# Altium footprint library LED_RGB_WS2812B.PcbLib: 4 footprints
Each footprint in its own frame and in the unit in brackets; x right, y up, seen from the top. Pads: shape width x height; smd on the part's side, far side on the other; paste and mask are expansions set on the pad; w line width, h text height; cw(c..) or ccw(c..) is an arc to the next point about the centre after c.
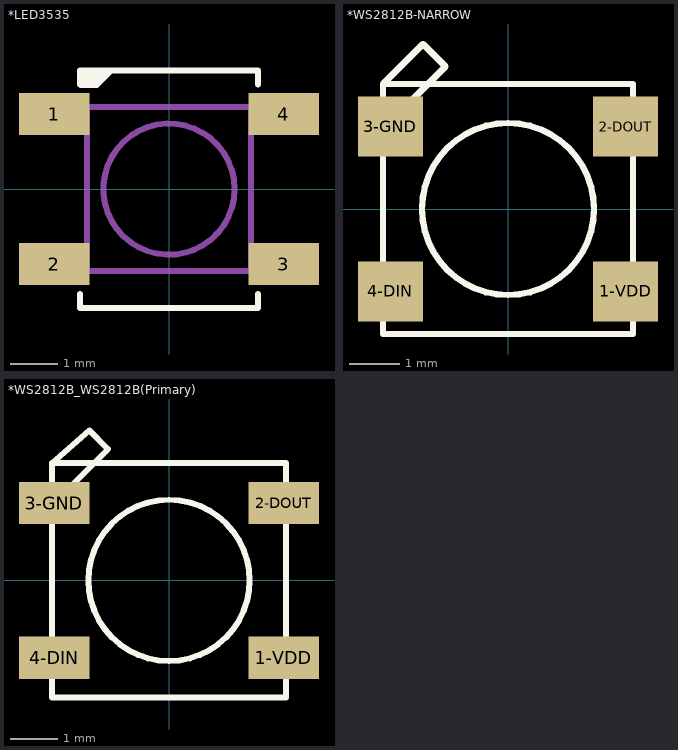
[diagram p0: the footprints below, top view; thin cyan lines are the x and y axes]

## *LED3535 [mm]
pads (4):
  rect 1.5x0.9 smd: 1(-2.45,1.6) 2(-2.45,-1.6) 3(2.45,-1.6) 4(2.45,1.6)
Top Overlay:
  region: -1.905,2.54 -1.905,2.159 -1.524,2.159 -1.143,2.54
  lines w0.127: -1.9,-2.235 -1.9,-2.535 1.9,-2.535 1.9,-2.235 ; -1.9,2.235 -1.9,2.535 1.9,2.535 1.9,2.235
Mechanical 4:
  circle w0.127: c0,0 r1.4
  circle w0.127: c0,0 r1.4
  lines w0.127: -1.75,-1.75 1.75,-1.75 ; -1.75,-1.75 -1.75,1.75 ; -1.75,-1.75 1.75,-1.75 ; -1.75,-1.75 -1.75,1.75 ; -1.75,1.75 1.75,1.75 ; -1.75,1.75 1.75,1.75 ; 1.75,-1.75 1.75,1.75 ; 1.75,-1.75 1.75,1.75
3D body "WS2812B--3DModel-STEP-55780.STEP": height 1.49, standoff -0.08, extent -2.7,-2.5 2.7,2.5

## *WS2812B-NARROW [mm]
pads (4):
  rect 1.3x1.2 smd: 1-VDD(2.35,-1.65) 2-DOUT(2.35,1.65) 3-GND(-2.35,1.65) 4-DIN(-2.35,-1.65)
Top Overlay:
  circle w0.127: c0,0 r1.72
  lines w0.127: -2.5,1.6 -1.6,2.5 ; -2.5,1.6 -2.5,2.5 ; -2.5,1.6 -2.5,-2.5 2.5,-2.5 2.5,2.5 -1.6,2.5 ; -2.5,2.5 -1.7,3.3 -1.25,2.85 -1.6,2.5 ; -2.5,2.5 -1.6,2.5

## *WS2812B_WS2812B(Primary) [mm]
pads (4):
  rect 1.5x0.9 smd: 1-VDD(2.45,-1.65) 2-DOUT(2.45,1.65) 3-GND(-2.45,1.65) 4-DIN(-2.45,-1.65)
Top Overlay:
  circle w0.127: c0,0 r1.72
  lines w0.127: -2.5,1.6 -1.6,2.5 ; -2.5,1.6 -2.5,2.5 ; -2.5,1.6 -2.5,-2.5 2.5,-2.5 2.5,2.5 -1.6,2.5 ; -2.5,2.5 -1.7,3.2 -1.3,2.8 -1.6,2.5 ; -2.5,2.5 -1.6,2.5

## PCBComponent_1 [mm]